# EAGLE library part DIP03YL (library 0SWITCH_DIL)
DIL/CODE SWITCH
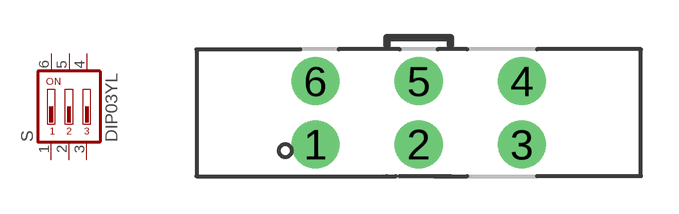
[diagram p51: symbol with the pads of DIP03YL; footprint DIP03YL]

Designator prefix S

## DIP03YL  [DIP03YL]
1  1  pas
2  2  pas
3  3  pas
4  4  pas
5  5  pas
6  6  pas

## Footprint DIP03YL (pad centres in mm)
DIL/CODE SWITCH
drill 1 pad 1.93 round: 1 -4.128,-1.27; 2 0,-1.27; 3 4.128,-1.27; 4 4.128,1.27; 5 0,1.27; 6 -4.128,1.27